# EAGLE library part MAX31865 (library Eagle_CAD_parts)
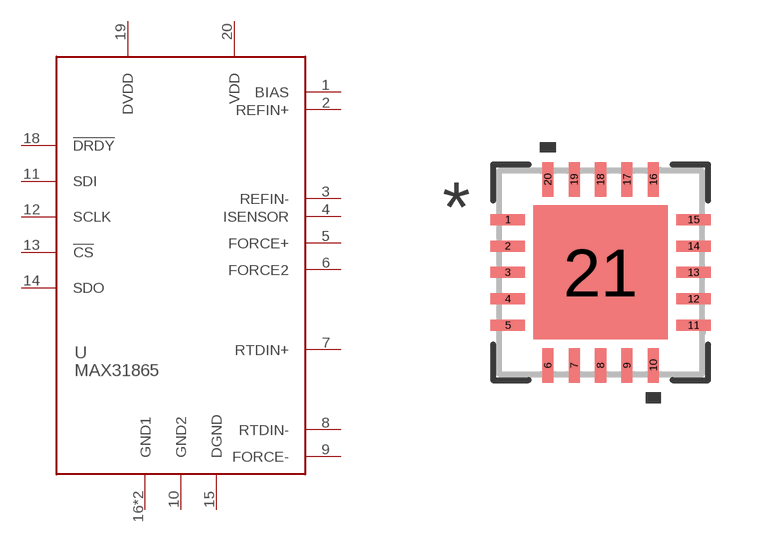
[diagram p64: symbol with the pads of 20-TQFN-5X5; footprint 20-TQFN-5X5]

Designator prefix U

## MAX31865_20-TQFN-5X5 (DIGIKEY_PART_NUMBER: MAX31865ATP+-ND; MANUFACTURER_PART_NUMBER: MAX31865ATP+; MOUSER_PART_NUMBER: 700-MAX31865ATP+)  [20-TQFN-5X5]
1  BIAS
2  REFIN+
3  REFIN-
4  ISENSOR
5  FORCE+
6  FORCE2
7  RTDIN+
8  RTDIN-
9  FORCE-
10  GND2
11  SDI
12  SCLK
13  !CS
14  SDO
15  DGND
16  GND1
18  !DRDY
19  DVDD
20  VDD
21  GND1

## Footprint 20-TQFN-5X5 (pad centres in mm)
smd 0.86 x 0.276: 1 -2.322,1.321; 2 -2.322,0.66; 3 -2.322,0; 4 -2.322,-0.66; 5 -2.322,-1.321; 11 2.322,-1.321; 12 2.322,-0.66; 13 2.322,0; 14 2.322,0.66; 15 2.322,1.321
smd 0.276 x 0.86: 6 -1.321,-2.322; 7 -0.66,-2.322; 8 0,-2.322; 9 0.66,-2.322; 10 1.321,-2.322; 16 1.321,2.322; 17 0.66,2.322; 18 0,2.322; 19 -0.66,2.322; 20 -1.321,2.322
smd 3.353 x 3.353: 21 0,0